# EAGLE library part RFM98W (library RFM)
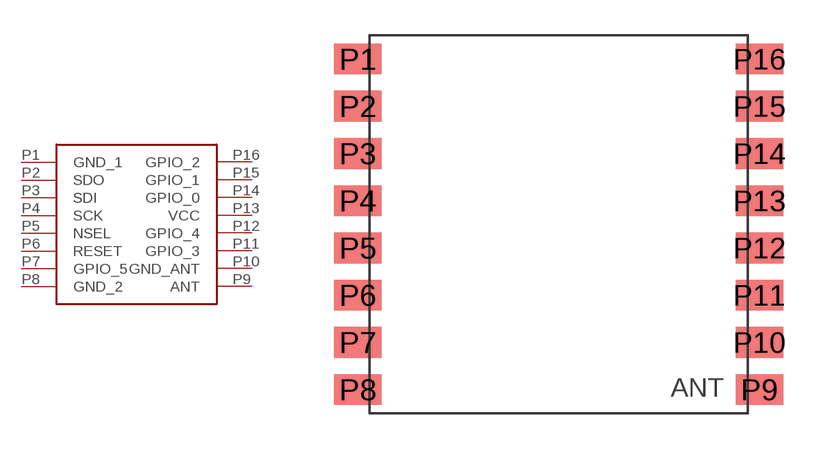
[diagram p1: symbol with the pads of RFM98W; footprint RFM98W]

Designator prefix -

## RFM98W  [RFM98W]
P1  GND_1
P2  SDO
P3  SDI
P4  SCK
P5  NSEL
P6  RESET
P7  GPIO_5
P8  GND_2
P9  ANT
P10  GND_ANT
P11  GPIO_3
P12  GPIO_4
P13  VCC
P14  GPIO_0
P15  GPIO_1
P16  GPIO_2

## Footprint RFM98W (pad centres in mm)
smd 2 x 1.3: P1 -8.5,7; P2 -8.5,5; P3 -8.5,3; P4 -8.5,1; P5 -8.5,-1; P6 -8.5,-3; P7 -8.5,-5; P8 -8.5,-7; P9 8.5,-7; P10 8.5,-5; P11 8.5,-3; P12 8.5,-1; P13 8.5,1; P14 8.5,3; P15 8.5,5; P16 8.5,7